# EAGLE library part 22-28-4060 (library 22-28-4060)
MOLEX - 22-28-4060 - CONNECTOR, HEADER, 6POS, 1ROW, 2.54MM Source: Datasheet <https://www.molex.com/pdm_docs/sd/022284060_sd.pdf>
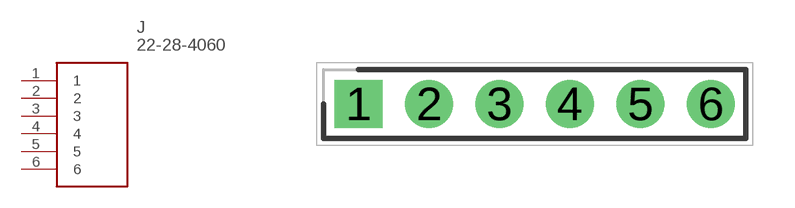
[diagram p0: symbol with the pads of HDRV6W66P0X254_1X6_1524X249X83; footprint HDRV6W66P0X254_1X6_1524X249X83]

Designator prefix J

## 22-28-4060 (DESCRIPTION: MOLEX - 22-28-4060 - CONNECTOR, HEADER, 6POS, 1ROW, 2.54MM; HEIGHT: 8.38mm; MANUFACTURER_NAME: Molex; MANUFACTURER_PART_NUMBER: 22-28-4060; MOUSER_PART_NUMBER: 538-22-28-4060; MOUSER_PRICE-STOCK: https://www.mouser.co.uk/ProductDetail/Molex/22-28-4060?qs=d9fIA1aNikSACgwI0d%252BTOw%3D%3D)  [HDRV6W66P0X254_1X6_1524X249X83]
1  1  pas
2  2  pas
3  3  pas
4  4  pas
5  5  pas
6  6  pas

## Footprint HDRV6W66P0X254_1X6_1524X249X83 (pad centres in mm)
22-28-4060
drill 1.15 pad 1.725 square: 1 0,0
drill 1.15 pad 1.725: 2 2.54,0; 3 5.08,0; 4 7.62,0; 5 10.16,0; 6 12.7,0